# Altium footprint library DAC testerPCB.PcbLib: 14 footprints
Each footprint in its own frame and in the unit in brackets; x right, y up, seen from the top. Pads: shape width x height; smd on the part's side, far side on the other; paste and mask are expansions set on the pad; w line width, h text height; cw(c..) or ccw(c..) is an arc to the next point about the centre after c.
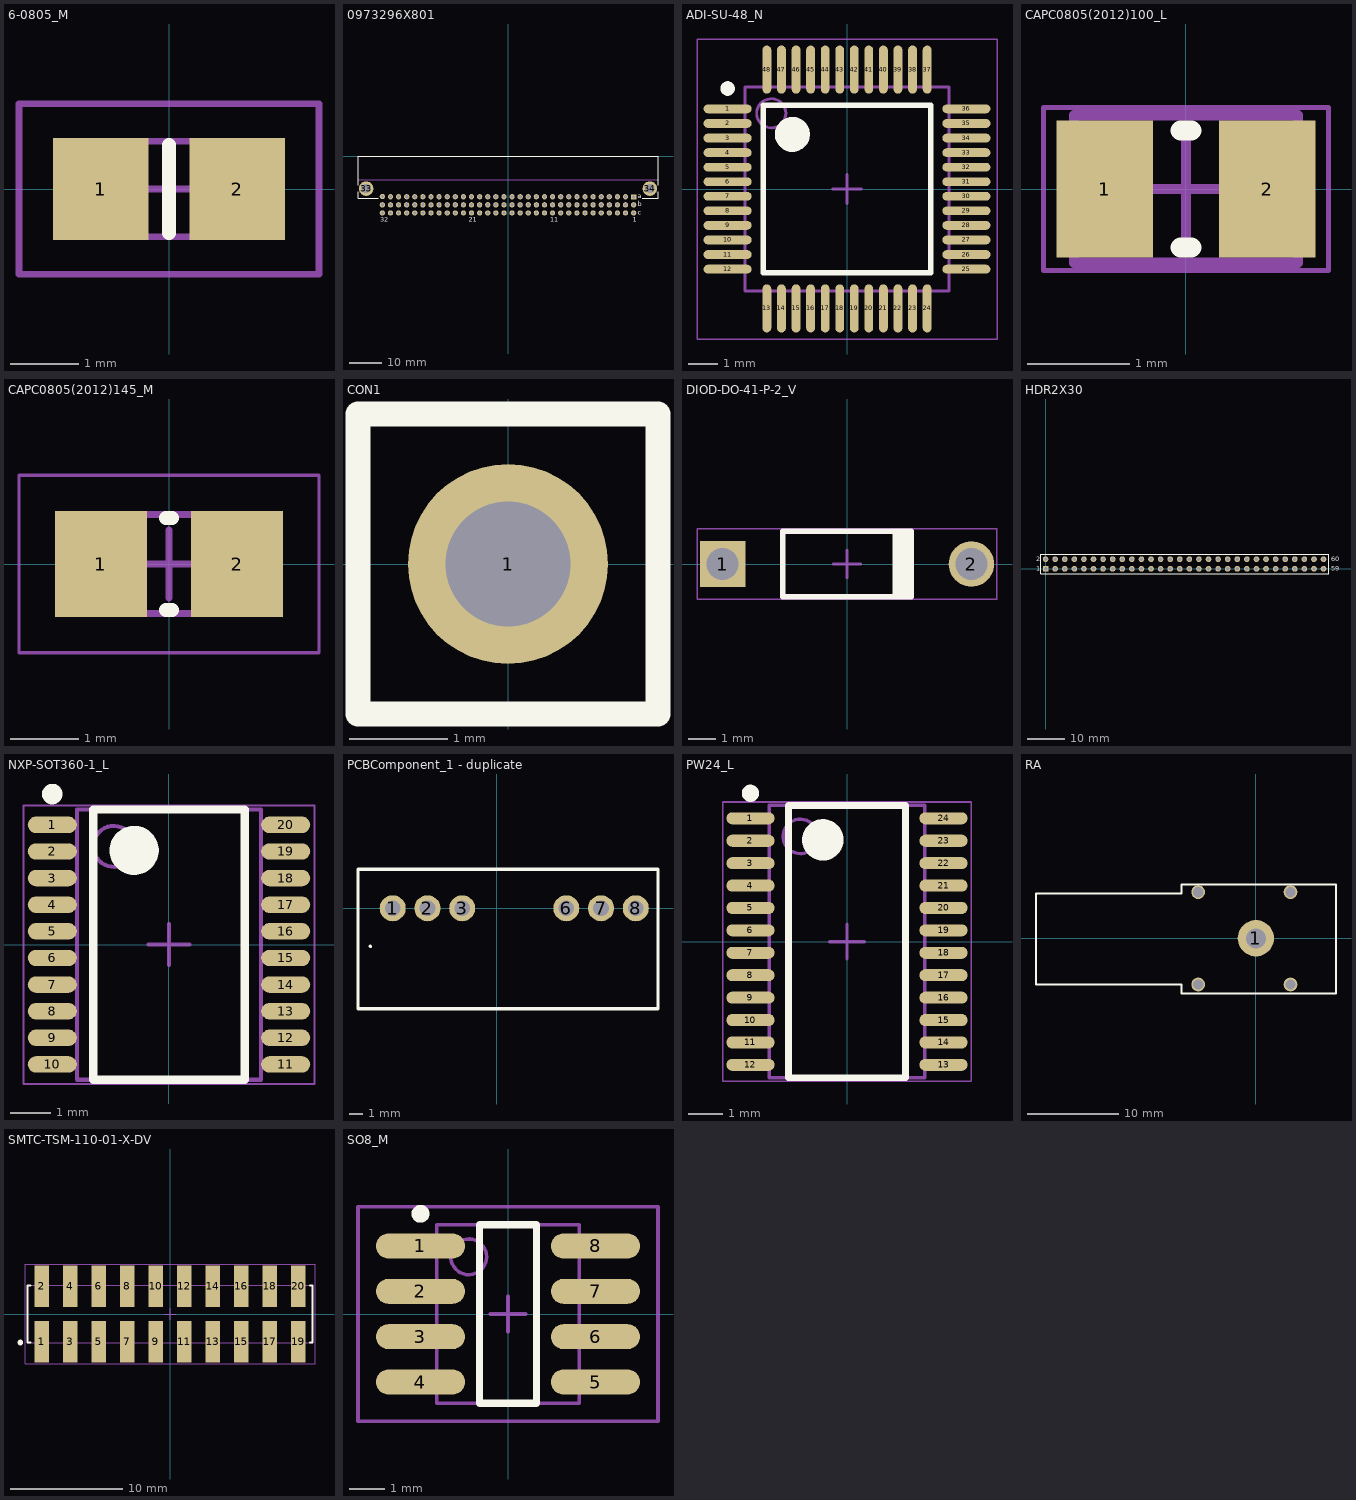
[diagram p0: the footprints below, top view; thin cyan lines are the x and y axes]

## 6-0805_M [mm] "Chip Resistor, Body 2.0x1.2mm, IPC Low Density"
height 0.7
pads (2):
  rect 1.4x1.5 smd: 1(-1,0) 2(1,0)
Top Overlay:
  lines w0.2: 0,-0.65 0,0.65
Mechanical 13:
  lines w0.1: -1.075,-0.7 -1.075,0.7 1.075,0.7 1.075,-0.7 -1.075,-0.7
Mechanical 15:
  lines w0.1: -0.5,0 0.5,0 ; 0,-0.5 0,0.5 ; -2.2,-1.25 -2.2,1.25 2.2,1.25 2.2,-1.25 -2.2,-1.25
3D body: height 0.7, standoff 0, extent -1.075,-0.7 1.075,0.7

## 0973296X801 [mm] "Connector; DIN 41612, Type R, Thru-Hole; Rows a+b+c, 96 Position; Right Angle"
height 11.1
pads (98):
  round 4.6 hole 2.8: 33(-44.45,-10.1) 34(44.45,-10.1)
  rect 1.65x1.65 hole 1: A1(39.37,-12.7)
  round 1.65 hole 1: A2(36.83,-12.64) A3(34.29,-12.64) A4(31.75,-12.64) A5(29.21,-12.64) A6(26.67,-12.64) A7(24.13,-12.64) A8(21.59,-12.64) A9(19.05,-12.64) A10(16.51,-12.64) A11(13.97,-12.64) A12(11.43,-12.64) A13(8.89,-12.64) A14(6.35,-12.64) A15(3.81,-12.64) A16(1.27,-12.64) A17(-1.27,-12.64) A18(-3.81,-12.64) A19(-6.35,-12.64) A20(-8.89,-12.64) A21(-11.43,-12.64) A22(-13.97,-12.64) A23(-16.51,-12.64) A24(-19.05,-12.64) A25(-21.59,-12.64) A26(-24.13,-12.64) A27(-26.67,-12.64) A28(-29.21,-12.64) A29(-31.75,-12.64) A30(-34.29,-12.64) A31(-36.83,-12.64) A32(-39.37,-12.573) B1(39.37,-15.18) B2(36.83,-15.18) B3(34.29,-15.18) B4(31.75,-15.18) B5(29.21,-15.18) B6(26.67,-15.18) B7(24.13,-15.18) B8(21.59,-15.18) B9(19.05,-15.18) B10(16.51,-15.18) B11(13.97,-15.18) B12(11.43,-15.18) B13(8.89,-15.18) B14(6.35,-15.18) B15(3.81,-15.18) B16(1.27,-15.18) B17(-1.27,-15.18) B18(-3.81,-15.18) B19(-6.35,-15.18) B20(-8.89,-15.18) B21(-11.43,-15.18) B22(-13.97,-15.18) B23(-16.51,-15.18) B24(-19.05,-15.18) B25(-21.59,-15.18) B26(-24.13,-15.18) B27(-26.67,-15.18) B28(-29.21,-15.18) B29(-31.75,-15.18) B30(-34.29,-15.18) B31(-36.83,-15.18) B32(-39.37,-15.18) C1(39.37,-17.72) C2(36.83,-17.72) C3(34.29,-17.72) C4(31.75,-17.72) C5(29.21,-17.72) C6(26.67,-17.72) C7(24.13,-17.72) C8(21.59,-17.72) C9(19.05,-17.72) C10(16.51,-17.72) C11(13.97,-17.72) C12(11.43,-17.72) C13(8.89,-17.72) C14(6.35,-17.72) C15(3.81,-17.72) C16(1.27,-17.72) C17(-1.27,-17.72) C18(-3.81,-17.72) C19(-6.35,-17.72) C20(-8.89,-17.72) C21(-11.43,-17.72) C22(-13.97,-17.72) C23(-16.51,-17.72) C24(-19.05,-17.72) C25(-21.59,-17.72) C26(-24.13,-17.72) C27(-26.67,-17.72) C28(-29.21,-17.72) C29(-31.75,-17.72) C30(-34.29,-17.72) C31(-36.83,-17.72) C32(-39.37,-17.72)
Top Overlay:
  lines w0.2: -47,-11.1 -47,-13.14 -40.595,-13.14 ; -47,-9.1 -47,0 47,0 47,-9.1 ; 42.07,-13.14 47,-13.14 47,-11.1
  text "32" at -40.005,-20.447 h1.5
  text "a" at 40.716,-13.14 h1.5
  text "b" at 40.716,-15.68 h1.5
  text "c" at 40.716,-18.22 h1.5
  text "1" at 39.136,-20.42 h1.5
  text "21" at -12.319,-20.447 h1.5
  text "11" at 13.208,-20.447 h1.5
Mechanical 1:
  lines w0.1: -47,-7.34 47,-7.34
  text "PCB Edge" at -46.47,-6.84 h0.6

## ADI-SU-48_N [mm] "QFP, 48-Leads, Body 7x7mm, Pitch 0.5mm, IPC Medium Density"
height 1.2
pads (48):
  oval 1.65x0.3 smd: 1(-4.1,2.75) 2(-4.1,2.25) 3(-4.1,1.75) 4(-4.1,1.25) 5(-4.1,0.75) 6(-4.1,0.25) 7(-4.1,-0.25) 8(-4.1,-0.75) 9(-4.1,-1.25) 10(-4.1,-1.75) 11(-4.1,-2.25) 12(-4.1,-2.75) 25(4.1,-2.75) 26(4.1,-2.25) 27(4.1,-1.75) 28(4.1,-1.25) 29(4.1,-0.75) 30(4.1,-0.25) 31(4.1,0.25) 32(4.1,0.75) 33(4.1,1.25) 34(4.1,1.75) 35(4.1,2.25) 36(4.1,2.75)
  oval 0.3x1.65 smd: 13(-2.75,-4.1) 14(-2.25,-4.1) 15(-1.75,-4.1) 16(-1.25,-4.1) 17(-0.75,-4.1) 18(-0.25,-4.1) 19(0.25,-4.1) 20(0.75,-4.1) 21(1.25,-4.1) 22(1.75,-4.1) 23(2.25,-4.1) 24(2.75,-4.1) 37(2.75,4.1) 38(2.25,4.1) 39(1.75,4.1) 40(1.25,4.1) 41(0.75,4.1) 42(0.25,4.1) 43(-0.25,4.1) 44(-0.75,4.1) 45(-1.25,4.1) 46(-1.75,4.1) 47(-2.25,4.1) 48(-2.75,4.1)
Top Overlay:
  circle w0.6: c-1.875,1.875 r0.3
  circle w0.25: c-4.1,3.45 r0.125
  lines w0.2: -2.875,-2.875 2.875,-2.875 2.875,2.875 -2.875,2.875 -2.875,-2.875
Mechanical 13:
  circle w0.1: c-2.6,2.6 r0.5
  lines w0.1: -3.5,-3.5 3.5,-3.5 3.5,3.5 -3.5,3.5 -3.5,-3.5
Mechanical 15:
  lines w0.05: -5.15,-5.15 5.15,-5.15 5.15,5.15 -5.15,5.15 -5.15,-5.15
  lines w0.1: -0.5,0 0.5,0 ; 0,-0.5 0,0.5
3D body: height 1.2, standoff 0.05, extent -3.5,-3.5 3.5,3.5

## CAPC0805(2012)100_L [mm] "Chip Capacitor, Body 2.0x1.2mm, Height 1.0mm, IPC High Density"
height 1
pads (2):
  rect 0.95x1.35 smd: 1(-0.8,0) 2(0.8,0)
Top Overlay:
  lines w0.2: -0.05,-0.575 0.05,-0.575 ; -0.05,0.575 0.05,0.575
Mechanical 13:
  lines w0.1: -1.1,-0.725 1.1,-0.725 1.1,0.725 -1.1,0.725 -1.1,-0.725
Mechanical 15:
  lines w0.05: -1.4,-0.8 1.4,-0.8 1.4,0.8 -1.4,0.8 -1.4,-0.8
  lines w0.1: -0.5,0 0.5,0 ; 0,-0.5 0,0.5
3D body: height 1, standoff 0, extent 0.6,-0.725 1.1,0.725
3D body: height 1, standoff 0, extent -1.1,-0.725 -0.6,0.725
3D body: height 1, standoff 0, extent -0.6,-0.725 0.6,0.725

## CAPC0805(2012)145_M [mm] "Chip Capacitor, Body 2.0x1.2mm, Height 1.45mm, IPC Low Density"
height 1.45
pads (2):
  rect 1.35x1.55 smd: 1(-1,0) 2(1,0)
Top Overlay:
  lines w0.2: -0.05,-0.675 0.05,-0.675 ; -0.05,0.675 0.05,0.675
Mechanical 13:
  lines w0.1: -1.1,-0.725 -1.1,0.725 1.1,0.725 1.1,-0.725 -1.1,-0.725
Mechanical 15:
  lines w0.05: -2.2,-1.3 -2.2,1.3 2.2,1.3 2.2,-1.3 -2.2,-1.3
  lines w0.1: -0.5,0 0.5,0 ; 0,-0.5 0,0.5
3D body: height 1.45, standoff 0, extent -0.6,-0.725 0.6,0.725
3D body: height 1.45, standoff 0, extent -1.1,-0.725 -0.6,0.725
3D body: height 1.45, standoff 0, extent 0.6,-0.725 1.1,0.725

## CON1 [mil]
pads (1):
  round 80 hole 50: 1(0,0)
Top Overlay:
  lines w10: -60,-60 60,-60 60,60 -60,60 -60,-60

## DIOD-DO-41-P-2_V [mm] "2-Leads, Axial Lead, Body 4.635x2.36mm, Pin Spacing 9mm"
height 2.36
pads (2):
  rect 1.65x1.65 hole 1.15: 1(-4.5,0)
  round 1.65 hole 1.15: 2(4.5,0)
Top Overlay:
  rectangle: 1.651,-1.18 2.317,1.18
  lines w0.2: -2.318,-1.18 2.318,-1.18 2.318,1.18 -2.318,1.18 -2.318,-1.18
Mechanical 13:
  lines w0.1: -2.318,-1.18 -2.318,1.18 2.318,1.18 2.318,-1.18 -2.318,-1.18
Mechanical 15:
  lines w0.05: -5.425,-1.28 5.425,-1.28 5.425,1.28 -5.425,1.28 -5.425,-1.28
  lines w0.1: -0.5,0 0.5,0 ; 0,-0.5 0,0.5
3D body: height 1.18, standoff -2, extent -4.929,-0.431 -4.068,0.431
3D body: height 1.61, standoff 0.75, extent -4.929,-0.43 -4.069,0.43
3D body: height 1.61, standoff 0.75, extent -4.499,-0.431 -2.317,0.431
3D body: height 1.61, standoff 0.75, extent 2.317,-0.431 4.499,0.431
3D body: height 1.61, standoff 0.75, extent 4.069,-0.43 4.929,0.43
3D body: height 1.18, standoff -2, extent 4.068,-0.431 4.929,0.431
3D body: height 2.35, standoff 0, extent -2.317,-1.18 2.317,1.175

## HDR2X30 [mm] "Connector; Header; 30x2 Position"
pads (60):
  rect 1.5x1.5 hole 0.9: 1(0,0)
  round 1.5 hole 0.9: 2(0,2.54) 3(2.54,0) 4(2.54,2.54) 5(5.08,0) 6(5.08,2.54) 7(7.62,0) 8(7.62,2.54) 9(10.16,0) 10(10.16,2.54) 11(12.7,0) 12(12.7,2.54) 13(15.24,0) 14(15.24,2.54) 15(17.78,0) 16(17.78,2.54) 17(20.32,0) 18(20.32,2.54) 19(22.86,0) 20(22.86,2.54) 21(25.4,0) 22(25.4,2.54) 23(27.94,0) 24(27.94,2.54) 25(30.48,0) 26(30.48,2.54) 27(33.02,0) 28(33.02,2.54) 29(35.56,0) 30(35.56,2.54) 31(38.1,0) 32(38.1,2.54) 33(40.64,0) 34(40.64,2.54) 35(43.18,0) 36(43.18,2.54) 37(45.72,0) 38(45.72,2.54) 39(48.26,0) 40(48.26,2.54) 41(50.8,0) 42(50.8,2.54) 43(53.34,0) 44(53.34,2.54) 45(55.88,0) 46(55.88,2.54) 47(58.42,0) 48(58.42,2.54) 49(60.96,0) 50(60.96,2.54) 51(63.5,0) 52(63.5,2.54) 53(66.04,0) 54(66.04,2.54) 55(68.58,0) 56(68.58,2.54) 57(71.12,0) 58(71.12,2.54) 59(73.66,0) 60(73.66,2.54)
Top Overlay:
  lines w0.2: -1.27,-1.27 -1.27,3.81 75.06,3.81 75.06,-1.27 -1.27,-1.27
  text "2" at -2.54,2.032 h1.27
  text "1" at -2.54,-0.508 h1.27
  text "59" at 75.692,-0.508 h1.27
  text "60" at 75.692,2.032 h1.27

## NXP-SOT360-1_L [mm] "SOP, 20-Leads, Body 6.6x4.5mm, Pitch 0.65mm, IPC High Density"
height 1.1
pads (20):
  oval 1.2x0.4 smd: 1(-2.85,2.925) 2(-2.85,2.275) 3(-2.85,1.625) 4(-2.85,0.975) 5(-2.85,0.325) 6(-2.85,-0.325) 7(-2.85,-0.975) 8(-2.85,-1.625) 9(-2.85,-2.275) 10(-2.85,-2.925) 11(2.85,-2.925) 12(2.85,-2.275) 13(2.85,-1.625) 14(2.85,-0.975) 15(2.85,-0.325) 16(2.85,0.325) 17(2.85,0.975) 18(2.85,1.625) 19(2.85,2.275) 20(2.85,2.925)
Top Overlay:
  circle w0.25: c-2.85,3.675 r0.125
  circle w0.6: c-0.85,2.3 r0.3
  lines w0.2: -1.85,-3.3 -1.85,3.3 1.85,3.3 1.85,-3.3 -1.85,-3.3
Mechanical 13:
  circle w0.1: c-1.35,2.4 r0.5
  lines w0.1: -2.25,-3.3 -2.25,3.3 2.25,3.3 2.25,-3.3 -2.25,-3.3
Mechanical 15:
  lines w0.05: -3.55,-3.4 -3.55,3.4 3.55,3.4 3.55,-3.4 -3.55,-3.4
  lines w0.1: -0.5,0 0.5,0 ; 0,-0.5 0,0.5
3D body: height 1.1, standoff 0.05, extent -2.25,-3.3 2.25,3.3

## PCBComponent_1 - duplicate [mil]
pads (6):
  round 75 hole 45: 1(-300,0) 2(-200,0) 3(-100,0) 6(200,0) 7(300,0) 8(400,0)
Top Overlay:
  lines w10: -365,-110 -364,-109 ; -400,-290 -400,113 464,113 464,-290 -400,-290

## PW24_L [mm] "TSOP, 24-Leads, Body 7.8x4.4mm, Pitch 0.65mm, IPC High Density"
height 1.2
pads (24):
  oval 1.4x0.35 smd: 1(-2.8,3.575) 2(-2.8,2.925) 3(-2.8,2.275) 4(-2.8,1.625) 5(-2.8,0.975) 6(-2.8,0.325) 7(-2.8,-0.325) 8(-2.8,-0.975) 9(-2.8,-1.625) 10(-2.8,-2.275) 11(-2.8,-2.925) 12(-2.8,-3.575) 13(2.8,-3.575) 14(2.8,-2.925) 15(2.8,-2.275) 16(2.8,-1.625) 17(2.8,-0.975) 18(2.8,-0.325) 19(2.8,0.325) 20(2.8,0.975) 21(2.8,1.625) 22(2.8,2.275) 23(2.8,2.925) 24(2.8,3.575)
Top Overlay:
  circle w0.6: c-0.7,2.95 r0.3
  circle w0.25: c-2.8,4.3 r0.125
  lines w0.2: -1.7,-3.95 1.7,-3.95 1.7,3.95 -1.7,3.95 -1.7,-3.95
Mechanical 13:
  circle w0.1: c-1.35,3.05 r0.5
  lines w0.1: -2.25,-3.95 2.25,-3.95 2.25,3.95 -2.25,3.95 -2.25,-3.95
Mechanical 15:
  lines w0.05: -3.6,-4.05 3.6,-4.05 3.6,4.05 -3.6,4.05 -3.6,-4.05
  lines w0.1: -0.5,0 0.5,0 ; 0,-0.5 0,0.5
3D body: height 1.2, standoff 0, extent -2.25,-3.95 2.25,3.95

## RA [mil] "Power socket"
pads (5):
  round 157.48 hole 86.61: 1(0,0)
  round 60 hole 45: ""(-250,-200) ""(-250,200) ""(150,-200) ""(150,200)
Top Overlay:
  lines w10: -952.36,-200 -322.44,-200 -322.44,-239.37 346.85,-239.37 346.85,233.07 -322.44,233.07 -322.44,193.7 -952.36,193.7 -952.36,-200

## SMTC-TSM-110-01-X-DV [mm] "Double Row Gullwing ASM, 2x10 Pins, Vertical, 2.54mm Pitch, Male"
height 9.9
pads (20):
  rect 1.27x3.68 smd: 1(-11.43,-2.475) 2(-11.43,2.475) 3(-8.89,-2.475) 4(-8.89,2.475) 5(-6.35,-2.475) 6(-6.35,2.475) 7(-3.81,-2.475) 8(-3.81,2.475) 9(-1.27,-2.475) 10(-1.27,2.475) 11(1.27,-2.475) 12(1.27,2.475) 13(3.81,-2.475) 14(3.81,2.475) 15(6.35,-2.475) 16(6.35,2.475) 17(8.89,-2.475) 18(8.89,2.475) 19(11.43,-2.475) 20(11.43,2.475)
Top Overlay:
  circle w0.25: c-13.335,-2.54 r0.125
  lines w0.2: -12.465,-2.54 -12.7,-2.54 -12.7,2.54 -12.465,2.54 ; 12.465,-2.54 12.7,-2.54 12.7,2.54 12.465,2.54
Mechanical 13:
  lines w0.1: -12.7,-2.54 12.7,-2.54 12.7,2.54 -12.7,2.54 -12.7,-2.54
Mechanical 15:
  lines w0.05: -12.925,-4.44 -12.925,4.44 12.925,4.44 12.925,-4.44 -12.925,-4.44
  lines w0.1: -0.5,0 0.5,0 ; 0,-0.5 0,0.5
3D body "TSM-110-01-X-DV.step": height 9.65, standoff 0, extent -12.7,-3.683 12.7,3.683

## SO8_M [mm] "SOIC, 8-Leads, Body 4.9x3.9mm, Pitch 1.27mm, IPC Low Density"
height 1.75
pads (8):
  oval 2.5x0.7 smd: 1(-2.45,1.905) 2(-2.45,0.635) 3(-2.45,-0.635) 4(-2.45,-1.905) 5(2.45,-1.905) 6(2.45,-0.635) 7(2.45,0.635) 8(2.45,1.905)
Top Overlay:
  circle w0.25: c-2.45,2.805 r0.125
  lines w0.2: -0.8,-2.5 0.8,-2.5 0.8,2.5 -0.8,2.5 -0.8,-2.5
Mechanical 13:
  circle w0.1: c-1.1,1.6 r0.5
  lines w0.1: -2,-2.5 2,-2.5 2,2.5 -2,2.5 -2,-2.5
Mechanical 15:
  lines w0.1: -0.5,0 0.5,0 ; 0,-0.5 0,0.5 ; -4.2,-3 4.2,-3 4.2,3 -4.2,3 -4.2,-3
3D body: height 1.75, standoff 0, extent -2,-2.5 2,2.5